# EAGLE library part 74LS51D (library EW_IC_74_Logic)
AND-OR-INVERT gates. Category: Gates Manufacturer: Generic
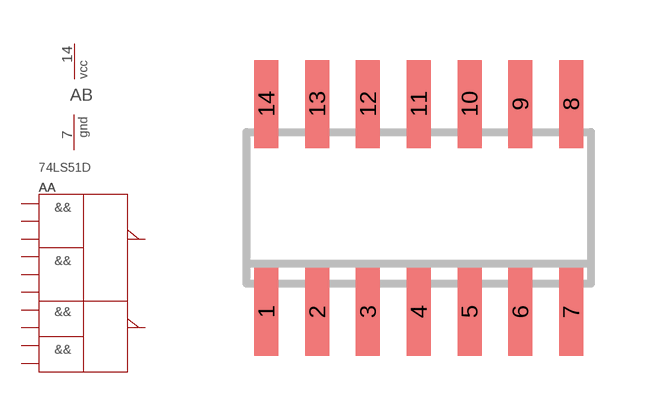
[diagram p238: symbol with the pads of SO14; footprint SO14]

Designator prefix A; gates A=7451_LS_AND-OR-INVERT B=PWRN

## 74LS51D  [SO14]
1  A:A1  pwr
2  A:A2  pwr
3  A:B2  pwr
4  A:C2  pwr
5  A:D2  pwr
6  A:Y2  pwr
7  B:GND  pwr
8  A:Y1  pwr
9  A:D1  pwr
10  A:E1  pwr
11  A:F1  pwr
12  A:B1  pwr
13  A:C1  pwr
14  B:VCC  pwr

## Footprint SO14 (pad centres in mm)
SMALL OUTLINE INTEGRATED CIRCUIT body 3.9 mm/JEDEC MS-012AC
smd 0.6 x 2.2: 1 -3.81,-2.6; 2 -2.54,-2.6; 3 -1.27,-2.6; 4 0,-2.6; 5 1.27,-2.6; 6 2.54,-2.6; 7 3.81,-2.6; 8 3.81,2.6; 9 2.54,2.6; 10 1.27,2.6; 11 0,2.6; 12 -1.27,2.6; 13 -2.54,2.6; 14 -3.81,2.6